# EAGLE library part 645008117322 (library Wire-to-Board)
WR-WTB 3.96mm Male Right Locking Header, 8 Pins=>Code : Con_WTB_3.96_PCB_THT_645008117322 <http://katalog.we-online.de/media/thumbs2/eican/thb_Con_WTB_3.96_PCB_THT_6450xx117322_pf2.jpg> Details see: http://katalog.we-online.de/en/em/645_0xx_117_322 Created 2014-06-05, Karrer Zheng 2014 (C) Würth Elektronik
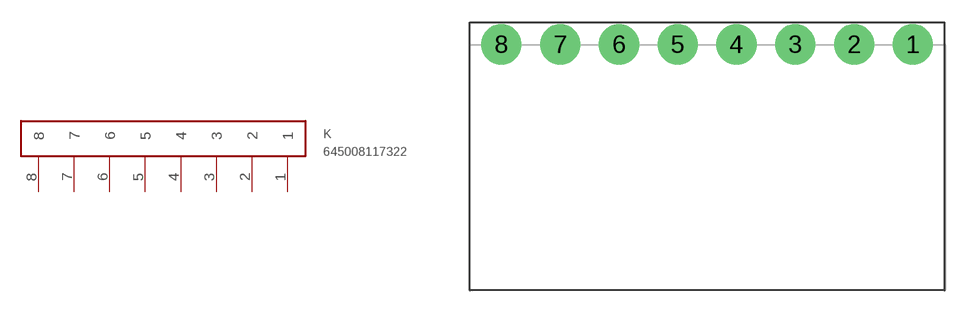
[diagram p3: symbol with the pads of 645008117322; footprint 645008117322]

Designator prefix K

## 645008117322  [645008117322]
1  1
2  2
3  3
4  4
5  5
6  6
7  7
8  8

## Footprint 645008117322 (pad centres in mm)
WR-WTB 3.96mm Male Right Angled Locking Header, 8 Pins
drill 1.8: 1 1.98,0; 2 -1.98,0; 3 -5.94,0; 4 -9.9,0; 5 -13.86,0; 6 -17.82,0; 7 -21.78,0; 8 -25.74,0